# Altium schematic symbol library GR3115.SchLib: 1 symbol
Pins are listed as number, name and electrical type; pins without a type are passive.

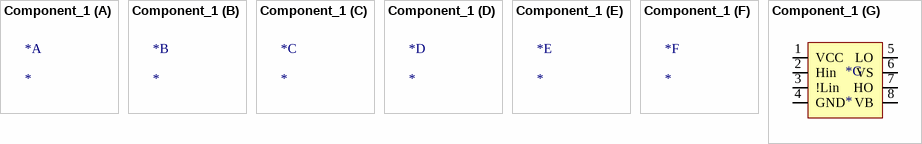
[diagram p0: symbol Component_1]

## Component_1
designator *
part G pins: 1 VCC, 2 Hin, 3 !Lin, 4 GND, 5 LO, 6 VS, 7 HO, 8 VB